# Altium footprint library connectors.PcbLib: 93 footprints (part 2 of 6)
Each footprint in its own frame and in the unit in brackets; x right, y up, seen from the top. Pads: shape width x height; smd on the part's side, far side on the other; paste and mask are expansions set on the pad; w line width, h text height; cw(c..) or ccw(c..) is an arc to the next point about the centre after c.
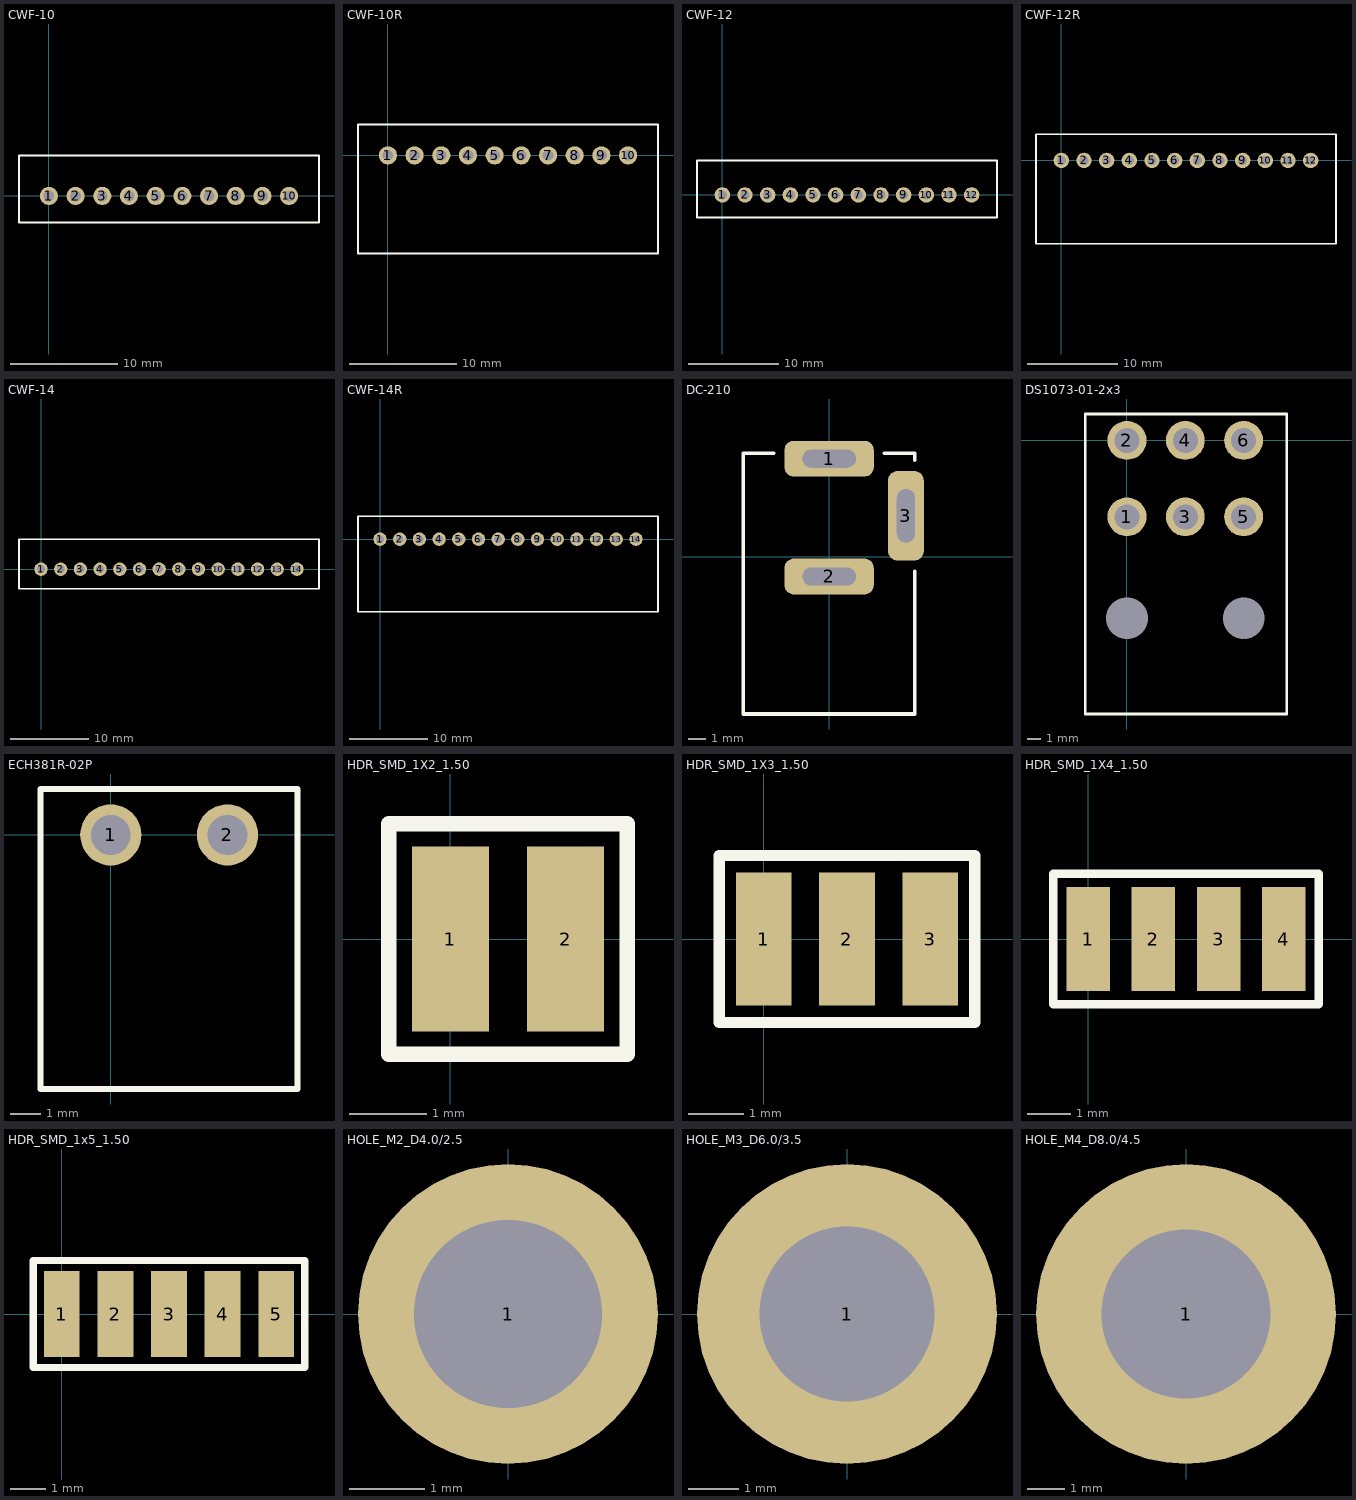
[diagram p1: the footprints below, top view; thin cyan lines are the x and y axes]

## CWF-10 [mm] "Pitch 2.50"
height 8.5
pads (10):
  round 1.7 hole 1 mask+0.1: 1(0,0) 2(2.5,0) 3(5,0) 4(7.5,0) 5(10,0) 6(12.5,0) 7(15,0) 8(17.5,0) 9(20,0) 10(22.5,0)
Top Overlay:
  lines w0.2: -2.8,-2.5 25.3,-2.5 25.3,3.8 -2.8,3.8 -2.8,-2.5
3D body "DS1069-10 CWF-10.stp": height 7, standoff -3.5, extent -2.5,-2.22 25,3.53

## CWF-10R [mm] "Pitch 2.50"
height 8.5
pads (10):
  round 1.7 hole 1 mask+0.1: 1(0,0) 2(2.5,0) 3(5,0) 4(7.5,0) 5(10,0) 6(12.5,0) 7(15,0) 8(17.5,0) 9(20,0) 10(22.5,0)
Top Overlay:
  lines w0.2: -2.8,-9.2 -2.8,2.9 25.3,2.9 25.3,-9.2 -2.8,-9.2
3D body "DS1069-10 CWF-10R.stp": height 5.75, standoff -3.5, extent -2.5,-8.9 25,2.6

## CWF-12 [mm] "Pitch 2.50"
height 8.5
pads (12):
  round 1.7 hole 1 mask+0.1: 1(0,0) 2(2.5,0) 3(5,0) 4(7.5,0) 5(10,0) 6(12.5,0) 7(15,0) 8(17.5,0) 9(20,0) 10(22.5,0) 11(25,0) 12(27.5,0)
Top Overlay:
  lines w0.2: -2.8,-2.5 30.3,-2.5 30.3,3.8 -2.8,3.8 -2.8,-2.5
3D body "DS1069-12 CWF-12.stp": height 7, standoff -3.5, extent -2.5,-2.22 30,3.53

## CWF-12R [mm] "Pitch 2.50"
height 8.5
pads (12):
  round 1.7 hole 1 mask+0.1: 1(0,0) 2(2.5,0) 3(5,0) 4(7.5,0) 5(10,0) 6(12.5,0) 7(15,0) 8(17.5,0) 9(20,0) 10(22.5,0) 11(25,0) 12(27.5,0)
Top Overlay:
  lines w0.2: -2.8,-9.2 30.3,-9.2 30.3,2.9 -2.8,2.9 -2.8,-9.2
3D body "DS1069-12 CWF-12R.stp": height 5.75, standoff -3.5, extent -2.5,-8.9 30,2.6

## CWF-14 [mm] "Pitch 2.50"
height 8.5
pads (14):
  round 1.7 hole 1 mask+0.1: 1(0,0) 2(2.5,0) 3(5,0) 4(7.5,0) 5(10,0) 6(12.5,0) 7(15,0) 8(17.5,0) 9(20,0) 10(22.5,0) 11(25,0) 12(27.5,0) 13(30,0) 14(32.5,0)
Top Overlay:
  lines w0.2: -2.8,-2.5 35.3,-2.5 35.3,3.8 -2.8,3.8 -2.8,-2.5
3D body "DS1069-14 CWF-14.stp": height 7, standoff -3.5, extent -2.5,-2.22 35,3.53

## CWF-14R [mm] "Pitch 2.50"
height 8.5
pads (14):
  round 1.7 hole 1 mask+0.1: 1(0,0) 2(2.5,0) 3(5,0) 4(7.5,0) 5(10,0) 6(12.5,0) 7(15,0) 8(17.5,0) 9(20,0) 10(22.5,0) 11(25,0) 12(27.5,0) 13(30,0) 14(32.5,0)
Top Overlay:
  lines w0.2: -2.8,-9.2 35.3,-9.2 35.3,2.9 -2.8,2.9 -2.8,-9.2
3D body "DS1069-14 CWF-14R.stp": height 5.75, standoff -3.5, extent -2.5,-8.9 35,2.6

## DC-210 [mm] "Pitch 2.54"
height 8.5
pads (3):
  rrect50% 5x2 hole 1 slot 3 at 0 deg mask+0.1: 1(0,5.5) 2(0,-1.1)
  rrect50% 2x5 hole 1 slot 3 at 90 deg mask+0.1: 3(4.3,2.3)
Top Overlay:
  lines w0.2: -3.1,5.8 -4.8,5.8 -4.8,-8.8 4.8,-8.8 4.8,-0.8 ; 3.1,5.8 4.8,5.8 4.8,5.4
3D body "DC Jack.STEP": height 11, standoff -3.5, extent -4.51,-8.505 4.5,5.505

## DS1073-01-2x3 [mm]
height 8.5
pads (8):
  round 2.8 hole 1.8 mask+0.1: 1(0,-5.5) 2(0,0) 3(4.2,-5.5) 4(4.2,0) 5(8.4,-5.5) 6(8.4,0)
  round 2.8 hole 3 mask+0: ""(0,-12.8) ""(8.4,-12.8)
Top Overlay:
  lines w0.2: -3,-19.7 -3,1.9 11.5,1.9 11.5,-19.7 -3,-19.7
3D body "Сборка.stp": height 11.5, standoff -3.5, extent -2.7,-19.435 11.2,0.635

## ECH381R-02P [mm]
height 8.5
pads (2):
  round 2 hole 1.3 mask+0.1: 1(0,0) 2(3.81,0)
Top Overlay:
  lines w0.2: -2.3,-8.3 -2.3,1.5 6.1,1.5 6.1,-8.3 -2.3,-8.3
3D body "ECH350R-02P.stp": height 7.2, standoff -3.4, extent -2,-8 5.8,1.2

## HDR_SMD_1X2_1.50 [mm] "Pitch 1.50"
height 8.5
pads (2):
  rect 1x2.4 smd mask+0.1: 1(0,0) 2(1.5,0)
Top Overlay:
  lines w0.2: -0.8,-1.5 -0.8,1.5 2.3,1.5 2.3,-1.5 -0.8,-1.5

## HDR_SMD_1X3_1.50 [mm] "Pitch 1.50"
height 8.5
pads (3):
  rect 1x2.4 smd mask+0.1: 1(0,0) 2(1.5,0) 3(3,0)
Top Overlay:
  lines w0.2: -0.8,-1.5 3.8,-1.5 3.8,1.5 -0.8,1.5 -0.8,-1.5

## HDR_SMD_1X4_1.50 [mm] "Pitch 1.50"
height 8.5
pads (4):
  rect 1x2.4 smd mask+0.1: 1(0,0) 2(1.5,0) 3(3,0) 4(4.5,0)
Top Overlay:
  lines w0.2: -0.8,-1.5 5.3,-1.5 5.3,1.5 -0.8,1.5 -0.8,-1.5

## HDR_SMD_1x5_1.50 [mm] "Pitch 1.50"
height 8.5
pads (5):
  rect 1x2.4 smd mask+0.1: 1(0,0) 2(1.5,0) 3(3,0) 4(4.5,0) 5(6,0)
Top Overlay:
  lines w0.2: -0.8,-1.5 6.8,-1.5 6.8,1.5 -0.8,1.5 -0.8,-1.5

## HOLE_M2_D4.0/2.5 [mm]
pads (1):
  round 4 hole 2.5 mask+0.1: 1(0,0)

## HOLE_M3_D6.0/3.5 [mm]
pads (1):
  round 6 hole 3.5 mask+0.1: 1(0,0)

## HOLE_M4_D8.0/4.5 [mm]
pads (1):
  round 8 hole 4.5 mask+0.1: 1(0,0)